# Altium footprint library Connector_Molex_Milligrid.PcbLib: 55 footprints (part 4 of 4)
Each footprint in its own frame and in the unit in brackets; x right, y up, seen from the top. Pads: shape width x height; smd on the part's side, far side on the other; paste and mask are expansions set on the pad; w line width, h text height; cw(c..) or ccw(c..) is an arc to the next point about the centre after c.
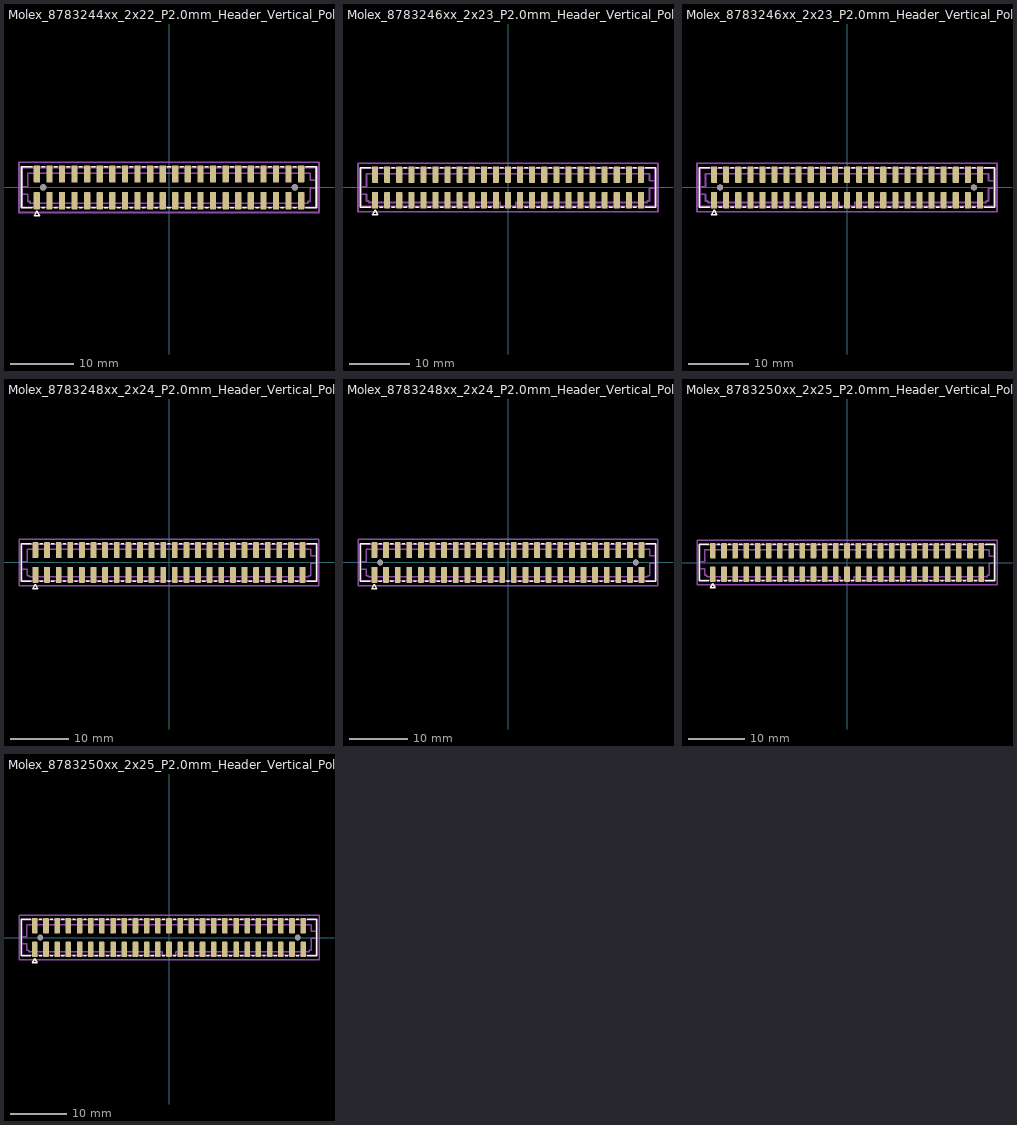
[diagram p3: the footprints below, top view; thin cyan lines are the x and y axes]

## Molex_8783244xx_2x22_P2.0mm_Header_Vertical_Polarized_MountingPegs [mm]
pads (46):
  rrect25% 1x2.75 smd: 1(-21,-2.125) 2(-21,2.125) 3(-19,-2.125) 4(-19,2.125) 5(-17,-2.125) 6(-17,2.125) 7(-15,-2.125) 8(-15,2.125) 9(-13,-2.125) 10(-13,2.125) 11(-11,-2.125) 12(-11,2.125) 13(-9,-2.125) 14(-9,2.125) 15(-7,-2.125) 16(-7,2.125) 17(-5,-2.125) 18(-5,2.125) 19(-3,-2.125) 20(-3,2.125) 21(-1,-2.125) 22(-1,2.125) 23(1,-2.125) 24(1,2.125) 25(3,-2.125) 26(3,2.125) 27(5,-2.125) 28(5,2.125) 29(7,-2.125) 30(7,2.125) 31(9,-2.125) 32(9,2.125) 33(11,-2.125) 34(11,2.125) 35(13,-2.125) 36(13,2.125) 37(15,-2.125) 38(15,2.125) 39(17,-2.125) 40(17,2.125) 41(19,-2.125) 42(19,2.125) 43(21,-2.125) 44(21,2.125)
  round 1 hole 1: Un1(-20,0) Un2(20,0)
F.SilkS:
  lines w0.254: -21.76,-3.26 -23.435,-3.26 -23.435,3.26 -21.76,3.26 ; -20.24,-3.26 -19.76,-3.26 ; -20.24,3.26 -19.76,3.26 ; -18.24,-3.26 -17.76,-3.26 ; -18.24,3.26 -17.76,3.26 ; -16.24,-3.26 -15.76,-3.26 ; -16.24,3.26 -15.76,3.26 ; -14.24,-3.26 -13.76,-3.26 ; -14.24,3.26 -13.76,3.26 ; -12.24,-3.26 -11.76,-3.26 ; -12.24,3.26 -11.76,3.26 ; -10.24,-3.26 -9.76,-3.26 ; -10.24,3.26 -9.76,3.26 ; -8.24,-3.26 -7.76,-3.26 ; -8.24,3.26 -7.76,3.26 ; -6.24,-3.26 -5.76,-3.26 ; -6.24,3.26 -5.76,3.26 ; -4.24,-3.26 -3.76,-3.26 ; -4.24,3.26 -3.76,3.26 ; -2.24,-3.26 -1.76,-3.26 ; -2.24,3.26 -1.76,3.26 ; -0.24,-3.26 0.24,-3.26 ; -0.24,3.26 0.24,3.26 ; 1.76,-3.26 2.24,-3.26 ; 1.76,3.26 2.24,3.26 ; 3.76,-3.26 4.24,-3.26 ; 3.76,3.26 4.24,3.26 ; 5.76,-3.26 6.24,-3.26 ; 5.76,3.26 6.24,3.26 ; 7.76,-3.26 8.24,-3.26 ; 7.76,3.26 8.24,3.26 ; 9.76,-3.26 10.24,-3.26 ; 9.76,3.26 10.24,3.26 ; 11.76,-3.26 12.24,-3.26 ; 11.76,3.26 12.24,3.26 ; 13.76,-3.26 14.24,-3.26 ; 13.76,3.26 14.24,3.26 ; 15.76,-3.26 16.24,-3.26 ; 15.76,3.26 16.24,3.26 ; 17.76,-3.26 18.24,-3.26 ; 17.76,3.26 18.24,3.26 ; 19.76,-3.26 20.24,-3.26 ; 19.76,3.26 20.24,3.26 ; 21.76,-3.26 23.435,-3.26 23.435,3.26 21.76,3.26 ; -21.433,-4.525 -20.567,-4.525 -21,-3.775 -21.433,-4.525
Top Assembly:
  lines w0.254: -23.325,-1.125 -22.425,-1.125 -22.425,-2.25 -22.075,-2.25 -22.075,-2.5 -1.25,-2.5 -1.25,-3.15 ; -23.325,0.125 -22.425,0.125 -22.425,2.25 22.425,2.25 22.425,1.125 23.325,1.125 ; -21.325,-3.15 -21,-2.5 -20.675,-3.15 ; 1.25,-3.15 1.25,-2.5 22.075,-2.5 22.075,-2.25 22.425,-2.25 22.425,-0.125 23.325,-0.125 ; -23.325,-3.15 23.325,-3.15 23.325,3.15 -23.325,3.15 -23.325,-3.15
  text "'.Designator'" at -4.047,-0.84 h1
Top Courtyard:
  lines w0.254: -23.83,-4 23.83,-4 23.83,4 -23.83,4 -23.83,-4
Top Designator:
  text ".Designator" at -7.618,-0.77 h1.52

## Molex_8783246xx_2x23_P2.0mm_Header_Vertical_Polarized [mm]
pads (46):
  rrect25% 1x2.75 smd: 1(-22,-2.125) 2(-22,2.125) 3(-20,-2.125) 4(-20,2.125) 5(-18,-2.125) 6(-18,2.125) 7(-16,-2.125) 8(-16,2.125) 9(-14,-2.125) 10(-14,2.125) 11(-12,-2.125) 12(-12,2.125) 13(-10,-2.125) 14(-10,2.125) 15(-8,-2.125) 16(-8,2.125) 17(-6,-2.125) 18(-6,2.125) 19(-4,-2.125) 20(-4,2.125) 21(-2,-2.125) 22(-2,2.125) 23(0,-2.125) 24(0,2.125) 25(2,-2.125) 26(2,2.125) 27(4,-2.125) 28(4,2.125) 29(6,-2.125) 30(6,2.125) 31(8,-2.125) 32(8,2.125) 33(10,-2.125) 34(10,2.125) 35(12,-2.125) 36(12,2.125) 37(14,-2.125) 38(14,2.125) 39(16,-2.125) 40(16,2.125) 41(18,-2.125) 42(18,2.125) 43(20,-2.125) 44(20,2.125) 45(22,-2.125) 46(22,2.125)
F.SilkS:
  lines w0.254: -22.76,-3.26 -24.435,-3.26 -24.435,3.26 -22.76,3.26 ; -21.24,-3.26 -20.76,-3.26 ; -21.24,3.26 -20.76,3.26 ; -19.24,-3.26 -18.76,-3.26 ; -19.24,3.26 -18.76,3.26 ; -17.24,-3.26 -16.76,-3.26 ; -17.24,3.26 -16.76,3.26 ; -15.24,-3.26 -14.76,-3.26 ; -15.24,3.26 -14.76,3.26 ; -13.24,-3.26 -12.76,-3.26 ; -13.24,3.26 -12.76,3.26 ; -11.24,-3.26 -10.76,-3.26 ; -11.24,3.26 -10.76,3.26 ; -9.24,-3.26 -8.76,-3.26 ; -9.24,3.26 -8.76,3.26 ; -7.24,-3.26 -6.76,-3.26 ; -7.24,3.26 -6.76,3.26 ; -5.24,-3.26 -4.76,-3.26 ; -5.24,3.26 -4.76,3.26 ; -3.24,-3.26 -2.76,-3.26 ; -3.24,3.26 -2.76,3.26 ; -1.24,-3.26 -0.76,-3.26 ; -1.24,3.26 -0.76,3.26 ; 0.76,-3.26 1.24,-3.26 ; 0.76,3.26 1.24,3.26 ; 2.76,-3.26 3.24,-3.26 ; 2.76,3.26 3.24,3.26 ; 4.76,-3.26 5.24,-3.26 ; 4.76,3.26 5.24,3.26 ; 6.76,-3.26 7.24,-3.26 ; 6.76,3.26 7.24,3.26 ; 8.76,-3.26 9.24,-3.26 ; 8.76,3.26 9.24,3.26 ; 10.76,-3.26 11.24,-3.26 ; 10.76,3.26 11.24,3.26 ; 12.76,-3.26 13.24,-3.26 ; 12.76,3.26 13.24,3.26 ; 14.76,-3.26 15.24,-3.26 ; 14.76,3.26 15.24,3.26 ; 16.76,-3.26 17.24,-3.26 ; 16.76,3.26 17.24,3.26 ; 18.76,-3.26 19.24,-3.26 ; 18.76,3.26 19.24,3.26 ; 20.76,-3.26 21.24,-3.26 ; 20.76,3.26 21.24,3.26 ; 22.76,-3.26 24.435,-3.26 24.435,3.26 22.76,3.26 ; -22.433,-4.525 -21.567,-4.525 -22,-3.775 -22.433,-4.525
Top Assembly:
  lines w0.254: -24.325,-1.125 -23.425,-1.125 -23.425,-2.25 -23.075,-2.25 -23.075,-2.5 -1.25,-2.5 -1.25,-3.15 ; -24.325,0.125 -23.425,0.125 -23.425,2.25 23.425,2.25 23.425,1.125 24.325,1.125 ; -22.325,-3.15 -22,-2.5 -21.675,-3.15 ; 1.25,-3.15 1.25,-2.5 23.075,-2.5 23.075,-2.25 23.425,-2.25 23.425,-0.125 24.325,-0.125 ; -24.325,-3.15 24.325,-3.15 24.325,3.15 -24.325,3.15 -24.325,-3.15
  text "'.Designator'" at -4.047,-0.84 h1
Top Courtyard:
  lines w0.254: -24.83,-4 24.83,-4 24.83,4 -24.83,4 -24.83,-4
Top Designator:
  text ".Designator" at -7.618,-0.77 h1.52

## Molex_8783246xx_2x23_P2.0mm_Header_Vertical_Polarized_MountingPegs [mm]
pads (48):
  rrect25% 1x2.75 smd: 1(-22,-2.125) 2(-22,2.125) 3(-20,-2.125) 4(-20,2.125) 5(-18,-2.125) 6(-18,2.125) 7(-16,-2.125) 8(-16,2.125) 9(-14,-2.125) 10(-14,2.125) 11(-12,-2.125) 12(-12,2.125) 13(-10,-2.125) 14(-10,2.125) 15(-8,-2.125) 16(-8,2.125) 17(-6,-2.125) 18(-6,2.125) 19(-4,-2.125) 20(-4,2.125) 21(-2,-2.125) 22(-2,2.125) 23(0,-2.125) 24(0,2.125) 25(2,-2.125) 26(2,2.125) 27(4,-2.125) 28(4,2.125) 29(6,-2.125) 30(6,2.125) 31(8,-2.125) 32(8,2.125) 33(10,-2.125) 34(10,2.125) 35(12,-2.125) 36(12,2.125) 37(14,-2.125) 38(14,2.125) 39(16,-2.125) 40(16,2.125) 41(18,-2.125) 42(18,2.125) 43(20,-2.125) 44(20,2.125) 45(22,-2.125) 46(22,2.125)
  round 1 hole 1: Un1(-21,0) Un2(21,0)
F.SilkS:
  lines w0.254: -22.76,-3.26 -24.435,-3.26 -24.435,3.26 -22.76,3.26 ; -21.24,-3.26 -20.76,-3.26 ; -21.24,3.26 -20.76,3.26 ; -19.24,-3.26 -18.76,-3.26 ; -19.24,3.26 -18.76,3.26 ; -17.24,-3.26 -16.76,-3.26 ; -17.24,3.26 -16.76,3.26 ; -15.24,-3.26 -14.76,-3.26 ; -15.24,3.26 -14.76,3.26 ; -13.24,-3.26 -12.76,-3.26 ; -13.24,3.26 -12.76,3.26 ; -11.24,-3.26 -10.76,-3.26 ; -11.24,3.26 -10.76,3.26 ; -9.24,-3.26 -8.76,-3.26 ; -9.24,3.26 -8.76,3.26 ; -7.24,-3.26 -6.76,-3.26 ; -7.24,3.26 -6.76,3.26 ; -5.24,-3.26 -4.76,-3.26 ; -5.24,3.26 -4.76,3.26 ; -3.24,-3.26 -2.76,-3.26 ; -3.24,3.26 -2.76,3.26 ; -1.24,-3.26 -0.76,-3.26 ; -1.24,3.26 -0.76,3.26 ; 0.76,-3.26 1.24,-3.26 ; 0.76,3.26 1.24,3.26 ; 2.76,-3.26 3.24,-3.26 ; 2.76,3.26 3.24,3.26 ; 4.76,-3.26 5.24,-3.26 ; 4.76,3.26 5.24,3.26 ; 6.76,-3.26 7.24,-3.26 ; 6.76,3.26 7.24,3.26 ; 8.76,-3.26 9.24,-3.26 ; 8.76,3.26 9.24,3.26 ; 10.76,-3.26 11.24,-3.26 ; 10.76,3.26 11.24,3.26 ; 12.76,-3.26 13.24,-3.26 ; 12.76,3.26 13.24,3.26 ; 14.76,-3.26 15.24,-3.26 ; 14.76,3.26 15.24,3.26 ; 16.76,-3.26 17.24,-3.26 ; 16.76,3.26 17.24,3.26 ; 18.76,-3.26 19.24,-3.26 ; 18.76,3.26 19.24,3.26 ; 20.76,-3.26 21.24,-3.26 ; 20.76,3.26 21.24,3.26 ; 22.76,-3.26 24.435,-3.26 24.435,3.26 22.76,3.26 ; -22.433,-4.525 -21.567,-4.525 -22,-3.775 -22.433,-4.525
Top Assembly:
  lines w0.254: -24.325,-1.125 -23.425,-1.125 -23.425,-2.25 -23.075,-2.25 -23.075,-2.5 -1.25,-2.5 -1.25,-3.15 ; -24.325,0.125 -23.425,0.125 -23.425,2.25 23.425,2.25 23.425,1.125 24.325,1.125 ; -22.325,-3.15 -22,-2.5 -21.675,-3.15 ; 1.25,-3.15 1.25,-2.5 23.075,-2.5 23.075,-2.25 23.425,-2.25 23.425,-0.125 24.325,-0.125 ; -24.325,-3.15 24.325,-3.15 24.325,3.15 -24.325,3.15 -24.325,-3.15
  text "'.Designator'" at -4.047,-0.84 h1
Top Courtyard:
  lines w0.254: -24.83,-4 24.83,-4 24.83,4 -24.83,4 -24.83,-4
Top Designator:
  text ".Designator" at -7.618,-0.77 h1.52

## Molex_8783248xx_2x24_P2.0mm_Header_Vertical_Polarized [mm]
pads (48):
  rrect25% 1x2.75 smd: 1(-23,-2.125) 2(-23,2.125) 3(-21,-2.125) 4(-21,2.125) 5(-19,-2.125) 6(-19,2.125) 7(-17,-2.125) 8(-17,2.125) 9(-15,-2.125) 10(-15,2.125) 11(-13,-2.125) 12(-13,2.125) 13(-11,-2.125) 14(-11,2.125) 15(-9,-2.125) 16(-9,2.125) 17(-7,-2.125) 18(-7,2.125) 19(-5,-2.125) 20(-5,2.125) 21(-3,-2.125) 22(-3,2.125) 23(-1,-2.125) 24(-1,2.125) 25(1,-2.125) 26(1,2.125) 27(3,-2.125) 28(3,2.125) 29(5,-2.125) 30(5,2.125) 31(7,-2.125) 32(7,2.125) 33(9,-2.125) 34(9,2.125) 35(11,-2.125) 36(11,2.125) 37(13,-2.125) 38(13,2.125) 39(15,-2.125) 40(15,2.125) 41(17,-2.125) 42(17,2.125) 43(19,-2.125) 44(19,2.125) 45(21,-2.125) 46(21,2.125) 47(23,-2.125) 48(23,2.125)
F.SilkS:
  lines w0.254: -23.76,-3.26 -25.435,-3.26 -25.435,3.26 -23.76,3.26 ; -22.24,-3.26 -21.76,-3.26 ; -22.24,3.26 -21.76,3.26 ; -20.24,-3.26 -19.76,-3.26 ; -20.24,3.26 -19.76,3.26 ; -18.24,-3.26 -17.76,-3.26 ; -18.24,3.26 -17.76,3.26 ; -16.24,-3.26 -15.76,-3.26 ; -16.24,3.26 -15.76,3.26 ; -14.24,-3.26 -13.76,-3.26 ; -14.24,3.26 -13.76,3.26 ; -12.24,-3.26 -11.76,-3.26 ; -12.24,3.26 -11.76,3.26 ; -10.24,-3.26 -9.76,-3.26 ; -10.24,3.26 -9.76,3.26 ; -8.24,-3.26 -7.76,-3.26 ; -8.24,3.26 -7.76,3.26 ; -6.24,-3.26 -5.76,-3.26 ; -6.24,3.26 -5.76,3.26 ; -4.24,-3.26 -3.76,-3.26 ; -4.24,3.26 -3.76,3.26 ; -2.24,-3.26 -1.76,-3.26 ; -2.24,3.26 -1.76,3.26 ; -0.24,-3.26 0.24,-3.26 ; -0.24,3.26 0.24,3.26 ; 1.76,-3.26 2.24,-3.26 ; 1.76,3.26 2.24,3.26 ; 3.76,-3.26 4.24,-3.26 ; 3.76,3.26 4.24,3.26 ; 5.76,-3.26 6.24,-3.26 ; 5.76,3.26 6.24,3.26 ; 7.76,-3.26 8.24,-3.26 ; 7.76,3.26 8.24,3.26 ; 9.76,-3.26 10.24,-3.26 ; 9.76,3.26 10.24,3.26 ; 11.76,-3.26 12.24,-3.26 ; 11.76,3.26 12.24,3.26 ; 13.76,-3.26 14.24,-3.26 ; 13.76,3.26 14.24,3.26 ; 15.76,-3.26 16.24,-3.26 ; 15.76,3.26 16.24,3.26 ; 17.76,-3.26 18.24,-3.26 ; 17.76,3.26 18.24,3.26 ; 19.76,-3.26 20.24,-3.26 ; 19.76,3.26 20.24,3.26 ; 21.76,-3.26 22.24,-3.26 ; 21.76,3.26 22.24,3.26 ; 23.76,-3.26 25.435,-3.26 25.435,3.26 23.76,3.26 ; -23.433,-4.525 -22.567,-4.525 -23,-3.775 -23.433,-4.525
Top Assembly:
  lines w0.254: -25.325,-1.125 -24.425,-1.125 -24.425,-2.25 -24.075,-2.25 -24.075,-2.5 -1.25,-2.5 -1.25,-3.15 ; -25.325,0.125 -24.425,0.125 -24.425,2.25 24.425,2.25 24.425,1.125 25.325,1.125 ; -23.325,-3.15 -23,-2.5 -22.675,-3.15 ; 1.25,-3.15 1.25,-2.5 24.075,-2.5 24.075,-2.25 24.425,-2.25 24.425,-0.125 25.325,-0.125 ; -25.325,-3.15 25.325,-3.15 25.325,3.15 -25.325,3.15 -25.325,-3.15
  text "'.Designator'" at -4.047,-0.84 h1
Top Courtyard:
  lines w0.254: -25.83,-4 25.83,-4 25.83,4 -25.83,4 -25.83,-4
Top Designator:
  text ".Designator" at -7.618,-0.77 h1.52

## Molex_8783248xx_2x24_P2.0mm_Header_Vertical_Polarized_MountingPegs [mm]
pads (50):
  rrect25% 1x2.75 smd: 1(-23,-2.125) 2(-23,2.125) 3(-21,-2.125) 4(-21,2.125) 5(-19,-2.125) 6(-19,2.125) 7(-17,-2.125) 8(-17,2.125) 9(-15,-2.125) 10(-15,2.125) 11(-13,-2.125) 12(-13,2.125) 13(-11,-2.125) 14(-11,2.125) 15(-9,-2.125) 16(-9,2.125) 17(-7,-2.125) 18(-7,2.125) 19(-5,-2.125) 20(-5,2.125) 21(-3,-2.125) 22(-3,2.125) 23(-1,-2.125) 24(-1,2.125) 25(1,-2.125) 26(1,2.125) 27(3,-2.125) 28(3,2.125) 29(5,-2.125) 30(5,2.125) 31(7,-2.125) 32(7,2.125) 33(9,-2.125) 34(9,2.125) 35(11,-2.125) 36(11,2.125) 37(13,-2.125) 38(13,2.125) 39(15,-2.125) 40(15,2.125) 41(17,-2.125) 42(17,2.125) 43(19,-2.125) 44(19,2.125) 45(21,-2.125) 46(21,2.125) 47(23,-2.125) 48(23,2.125)
  round 1 hole 1: Un1(-22,0) Un2(22,0)
F.SilkS:
  lines w0.254: -23.76,-3.26 -25.435,-3.26 -25.435,3.26 -23.76,3.26 ; -22.24,-3.26 -21.76,-3.26 ; -22.24,3.26 -21.76,3.26 ; -20.24,-3.26 -19.76,-3.26 ; -20.24,3.26 -19.76,3.26 ; -18.24,-3.26 -17.76,-3.26 ; -18.24,3.26 -17.76,3.26 ; -16.24,-3.26 -15.76,-3.26 ; -16.24,3.26 -15.76,3.26 ; -14.24,-3.26 -13.76,-3.26 ; -14.24,3.26 -13.76,3.26 ; -12.24,-3.26 -11.76,-3.26 ; -12.24,3.26 -11.76,3.26 ; -10.24,-3.26 -9.76,-3.26 ; -10.24,3.26 -9.76,3.26 ; -8.24,-3.26 -7.76,-3.26 ; -8.24,3.26 -7.76,3.26 ; -6.24,-3.26 -5.76,-3.26 ; -6.24,3.26 -5.76,3.26 ; -4.24,-3.26 -3.76,-3.26 ; -4.24,3.26 -3.76,3.26 ; -2.24,-3.26 -1.76,-3.26 ; -2.24,3.26 -1.76,3.26 ; -0.24,-3.26 0.24,-3.26 ; -0.24,3.26 0.24,3.26 ; 1.76,-3.26 2.24,-3.26 ; 1.76,3.26 2.24,3.26 ; 3.76,-3.26 4.24,-3.26 ; 3.76,3.26 4.24,3.26 ; 5.76,-3.26 6.24,-3.26 ; 5.76,3.26 6.24,3.26 ; 7.76,-3.26 8.24,-3.26 ; 7.76,3.26 8.24,3.26 ; 9.76,-3.26 10.24,-3.26 ; 9.76,3.26 10.24,3.26 ; 11.76,-3.26 12.24,-3.26 ; 11.76,3.26 12.24,3.26 ; 13.76,-3.26 14.24,-3.26 ; 13.76,3.26 14.24,3.26 ; 15.76,-3.26 16.24,-3.26 ; 15.76,3.26 16.24,3.26 ; 17.76,-3.26 18.24,-3.26 ; 17.76,3.26 18.24,3.26 ; 19.76,-3.26 20.24,-3.26 ; 19.76,3.26 20.24,3.26 ; 21.76,-3.26 22.24,-3.26 ; 21.76,3.26 22.24,3.26 ; 23.76,-3.26 25.435,-3.26 25.435,3.26 23.76,3.26 ; -23.433,-4.525 -22.567,-4.525 -23,-3.775 -23.433,-4.525
Top Assembly:
  lines w0.254: -25.325,-1.125 -24.425,-1.125 -24.425,-2.25 -24.075,-2.25 -24.075,-2.5 -1.25,-2.5 -1.25,-3.15 ; -25.325,0.125 -24.425,0.125 -24.425,2.25 24.425,2.25 24.425,1.125 25.325,1.125 ; -23.325,-3.15 -23,-2.5 -22.675,-3.15 ; 1.25,-3.15 1.25,-2.5 24.075,-2.5 24.075,-2.25 24.425,-2.25 24.425,-0.125 25.325,-0.125 ; -25.325,-3.15 25.325,-3.15 25.325,3.15 -25.325,3.15 -25.325,-3.15
  text "'.Designator'" at -4.047,-0.84 h1
Top Courtyard:
  lines w0.254: -25.83,-4 25.83,-4 25.83,4 -25.83,4 -25.83,-4
Top Designator:
  text ".Designator" at -7.618,-0.77 h1.52

## Molex_8783250xx_2x25_P2.0mm_Header_Vertical_Polarized [mm]
pads (50):
  rrect25% 1x2.75 smd: 1(-24,-2.125) 2(-24,2.125) 3(-22,-2.125) 4(-22,2.125) 5(-20,-2.125) 6(-20,2.125) 7(-18,-2.125) 8(-18,2.125) 9(-16,-2.125) 10(-16,2.125) 11(-14,-2.125) 12(-14,2.125) 13(-12,-2.125) 14(-12,2.125) 15(-10,-2.125) 16(-10,2.125) 17(-8,-2.125) 18(-8,2.125) 19(-6,-2.125) 20(-6,2.125) 21(-4,-2.125) 22(-4,2.125) 23(-2,-2.125) 24(-2,2.125) 25(0,-2.125) 26(0,2.125) 27(2,-2.125) 28(2,2.125) 29(4,-2.125) 30(4,2.125) 31(6,-2.125) 32(6,2.125) 33(8,-2.125) 34(8,2.125) 35(10,-2.125) 36(10,2.125) 37(12,-2.125) 38(12,2.125) 39(14,-2.125) 40(14,2.125) 41(16,-2.125) 42(16,2.125) 43(18,-2.125) 44(18,2.125) 45(20,-2.125) 46(20,2.125) 47(22,-2.125) 48(22,2.125) 49(24,-2.125) 50(24,2.125)
F.SilkS:
  lines w0.254: -24.76,-3.26 -26.435,-3.26 -26.435,3.26 -24.76,3.26 ; -23.24,-3.26 -22.76,-3.26 ; -23.24,3.26 -22.76,3.26 ; -21.24,-3.26 -20.76,-3.26 ; -21.24,3.26 -20.76,3.26 ; -19.24,-3.26 -18.76,-3.26 ; -19.24,3.26 -18.76,3.26 ; -17.24,-3.26 -16.76,-3.26 ; -17.24,3.26 -16.76,3.26 ; -15.24,-3.26 -14.76,-3.26 ; -15.24,3.26 -14.76,3.26 ; -13.24,-3.26 -12.76,-3.26 ; -13.24,3.26 -12.76,3.26 ; -11.24,-3.26 -10.76,-3.26 ; -11.24,3.26 -10.76,3.26 ; -9.24,-3.26 -8.76,-3.26 ; -9.24,3.26 -8.76,3.26 ; -7.24,-3.26 -6.76,-3.26 ; -7.24,3.26 -6.76,3.26 ; -5.24,-3.26 -4.76,-3.26 ; -5.24,3.26 -4.76,3.26 ; -3.24,-3.26 -2.76,-3.26 ; -3.24,3.26 -2.76,3.26 ; -1.24,-3.26 -0.76,-3.26 ; -1.24,3.26 -0.76,3.26 ; 0.76,-3.26 1.24,-3.26 ; 0.76,3.26 1.24,3.26 ; 2.76,-3.26 3.24,-3.26 ; 2.76,3.26 3.24,3.26 ; 4.76,-3.26 5.24,-3.26 ; 4.76,3.26 5.24,3.26 ; 6.76,-3.26 7.24,-3.26 ; 6.76,3.26 7.24,3.26 ; 8.76,-3.26 9.24,-3.26 ; 8.76,3.26 9.24,3.26 ; 10.76,-3.26 11.24,-3.26 ; 10.76,3.26 11.24,3.26 ; 12.76,-3.26 13.24,-3.26 ; 12.76,3.26 13.24,3.26 ; 14.76,-3.26 15.24,-3.26 ; 14.76,3.26 15.24,3.26 ; 16.76,-3.26 17.24,-3.26 ; 16.76,3.26 17.24,3.26 ; 18.76,-3.26 19.24,-3.26 ; 18.76,3.26 19.24,3.26 ; 20.76,-3.26 21.24,-3.26 ; 20.76,3.26 21.24,3.26 ; 22.76,-3.26 23.24,-3.26 ; 22.76,3.26 23.24,3.26 ; 24.76,-3.26 26.435,-3.26 26.435,3.26 24.76,3.26 ; -24.433,-4.525 -23.567,-4.525 -24,-3.775 -24.433,-4.525
Top Assembly:
  lines w0.254: -26.325,-1.125 -25.425,-1.125 -25.425,-2.25 -25.075,-2.25 -25.075,-2.5 -1.25,-2.5 -1.25,-3.15 ; -26.325,0.125 -25.425,0.125 -25.425,2.25 25.425,2.25 25.425,1.125 26.325,1.125 ; -24.325,-3.15 -24,-2.5 -23.675,-3.15 ; 1.25,-3.15 1.25,-2.5 25.075,-2.5 25.075,-2.25 25.425,-2.25 25.425,-0.125 26.325,-0.125 ; -26.325,-3.15 26.325,-3.15 26.325,3.15 -26.325,3.15 -26.325,-3.15
  text "'.Designator'" at -4.047,-0.84 h1
Top Courtyard:
  lines w0.254: -26.83,-4 26.83,-4 26.83,4 -26.83,4 -26.83,-4
Top Designator:
  text ".Designator" at -7.618,-0.77 h1.52

## Molex_8783250xx_2x25_P2.0mm_Header_Vertical_Polarized_MountingPegs [mm]
pads (52):
  rrect25% 1x2.75 smd: 1(-24,-2.125) 2(-24,2.125) 3(-22,-2.125) 4(-22,2.125) 5(-20,-2.125) 6(-20,2.125) 7(-18,-2.125) 8(-18,2.125) 9(-16,-2.125) 10(-16,2.125) 11(-14,-2.125) 12(-14,2.125) 13(-12,-2.125) 14(-12,2.125) 15(-10,-2.125) 16(-10,2.125) 17(-8,-2.125) 18(-8,2.125) 19(-6,-2.125) 20(-6,2.125) 21(-4,-2.125) 22(-4,2.125) 23(-2,-2.125) 24(-2,2.125) 25(0,-2.125) 26(0,2.125) 27(2,-2.125) 28(2,2.125) 29(4,-2.125) 30(4,2.125) 31(6,-2.125) 32(6,2.125) 33(8,-2.125) 34(8,2.125) 35(10,-2.125) 36(10,2.125) 37(12,-2.125) 38(12,2.125) 39(14,-2.125) 40(14,2.125) 41(16,-2.125) 42(16,2.125) 43(18,-2.125) 44(18,2.125) 45(20,-2.125) 46(20,2.125) 47(22,-2.125) 48(22,2.125) 49(24,-2.125) 50(24,2.125)
  round 1 hole 1: Un1(-23,0) Un2(23,0)
F.SilkS:
  lines w0.254: -24.76,-3.26 -26.435,-3.26 -26.435,3.26 -24.76,3.26 ; -23.24,-3.26 -22.76,-3.26 ; -23.24,3.26 -22.76,3.26 ; -21.24,-3.26 -20.76,-3.26 ; -21.24,3.26 -20.76,3.26 ; -19.24,-3.26 -18.76,-3.26 ; -19.24,3.26 -18.76,3.26 ; -17.24,-3.26 -16.76,-3.26 ; -17.24,3.26 -16.76,3.26 ; -15.24,-3.26 -14.76,-3.26 ; -15.24,3.26 -14.76,3.26 ; -13.24,-3.26 -12.76,-3.26 ; -13.24,3.26 -12.76,3.26 ; -11.24,-3.26 -10.76,-3.26 ; -11.24,3.26 -10.76,3.26 ; -9.24,-3.26 -8.76,-3.26 ; -9.24,3.26 -8.76,3.26 ; -7.24,-3.26 -6.76,-3.26 ; -7.24,3.26 -6.76,3.26 ; -5.24,-3.26 -4.76,-3.26 ; -5.24,3.26 -4.76,3.26 ; -3.24,-3.26 -2.76,-3.26 ; -3.24,3.26 -2.76,3.26 ; -1.24,-3.26 -0.76,-3.26 ; -1.24,3.26 -0.76,3.26 ; 0.76,-3.26 1.24,-3.26 ; 0.76,3.26 1.24,3.26 ; 2.76,-3.26 3.24,-3.26 ; 2.76,3.26 3.24,3.26 ; 4.76,-3.26 5.24,-3.26 ; 4.76,3.26 5.24,3.26 ; 6.76,-3.26 7.24,-3.26 ; 6.76,3.26 7.24,3.26 ; 8.76,-3.26 9.24,-3.26 ; 8.76,3.26 9.24,3.26 ; 10.76,-3.26 11.24,-3.26 ; 10.76,3.26 11.24,3.26 ; 12.76,-3.26 13.24,-3.26 ; 12.76,3.26 13.24,3.26 ; 14.76,-3.26 15.24,-3.26 ; 14.76,3.26 15.24,3.26 ; 16.76,-3.26 17.24,-3.26 ; 16.76,3.26 17.24,3.26 ; 18.76,-3.26 19.24,-3.26 ; 18.76,3.26 19.24,3.26 ; 20.76,-3.26 21.24,-3.26 ; 20.76,3.26 21.24,3.26 ; 22.76,-3.26 23.24,-3.26 ; 22.76,3.26 23.24,3.26 ; 24.76,-3.26 26.435,-3.26 26.435,3.26 24.76,3.26 ; -24.433,-4.525 -23.567,-4.525 -24,-3.775 -24.433,-4.525
Top Assembly:
  lines w0.254: -26.325,-1.125 -25.425,-1.125 -25.425,-2.25 -25.075,-2.25 -25.075,-2.5 -1.25,-2.5 -1.25,-3.15 ; -26.325,0.125 -25.425,0.125 -25.425,2.25 25.425,2.25 25.425,1.125 26.325,1.125 ; -24.325,-3.15 -24,-2.5 -23.675,-3.15 ; 1.25,-3.15 1.25,-2.5 25.075,-2.5 25.075,-2.25 25.425,-2.25 25.425,-0.125 26.325,-0.125 ; -26.325,-3.15 26.325,-3.15 26.325,3.15 -26.325,3.15 -26.325,-3.15
  text "'.Designator'" at -4.047,-0.84 h1
Top Courtyard:
  lines w0.254: -26.83,-4 26.83,-4 26.83,4 -26.83,4 -26.83,-4
Top Designator:
  text ".Designator" at -7.618,-0.77 h1.52